# Altium integrated library Cypress Clocks & Buffers Clock Distribution.IntLib: 321 symbols (part 23 of 25)
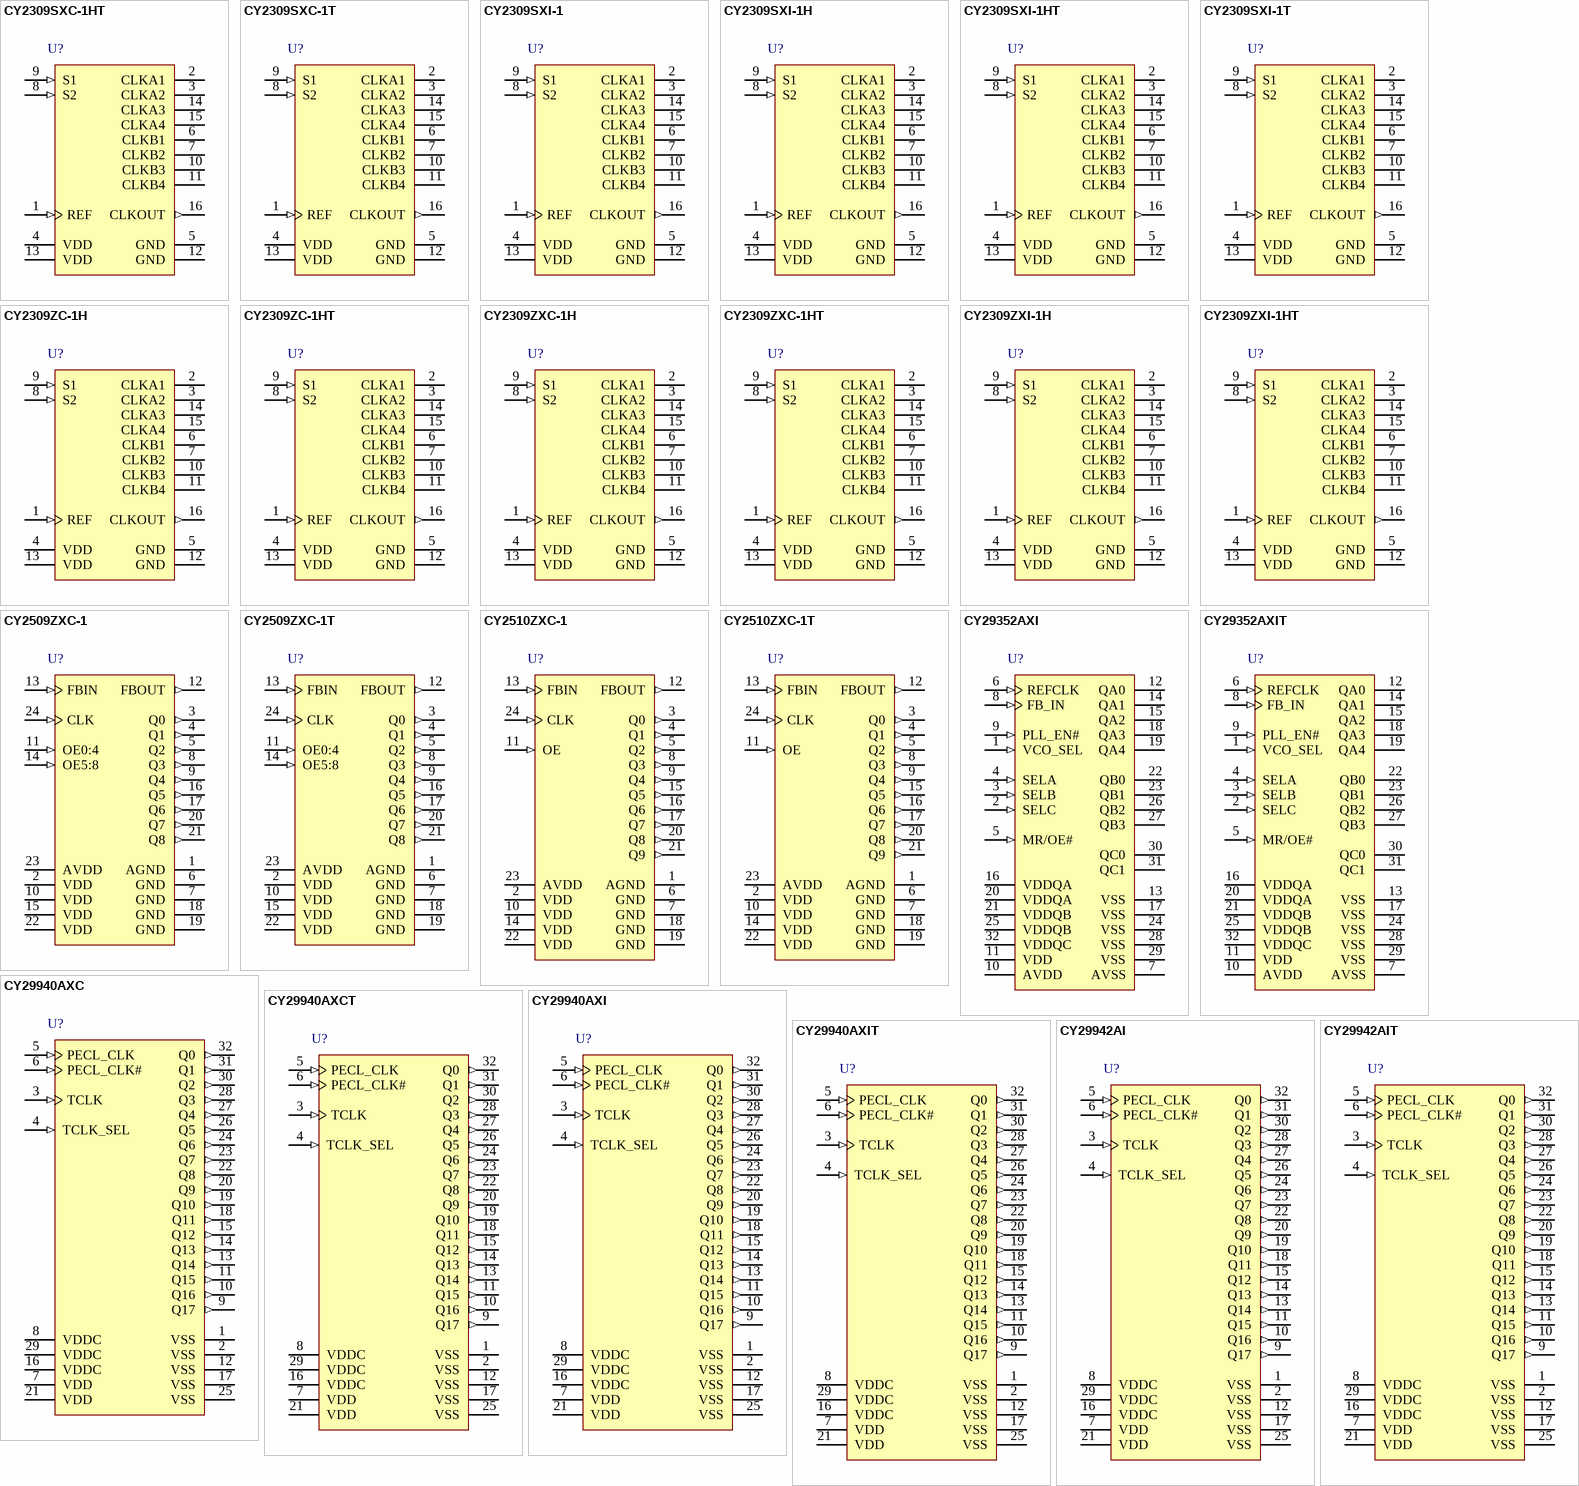
[diagram p38: symbols CY2309SXC-1HT to CY29942AIT]

## CY2309ZC-1H
designator U?
Low Cost Zero Delay Buffer, 3.3 V, 9 Outputs, 10 to 133.33 MHz, 0 to 70 degC, 16-Pin TSSOP (Z16), Tube; Manufacturer: Cypress; PartNumber: CY2309ZC-1H; Input Frequency Max. (MHz): 133; Input Frequency Min. (MHz): 10; Max. Operating Voltage (V): 3.6; Min. Operating Voltage (V): 3; No. of Outputs: 9; Output Frequency Max. (MHz): 133.33; DatasheetVersion: Rev. *R; PackageVersion: Rev. *D; PackageReference: Z16; PackageDescription: 16-Pin Thin Shrink Small Outline Package, Body 5 x 4.4 mm, Pitch 0.65 mm; Supplier 1: Digi-Key; Supplier Part Number 1: 428-1369-ND; Supplier 2: Mouser; Supplier Part Number 2: 727-CY2309ZC1H; Max. Operating Temp. (degreesC): 70; Min. Operating Temp. (degreesC): 0; Output Frequency Min. (MHz): 10; Packing: Tube; Mounting Technology: Surface Mount; Code_JEDEC: MO-153; ComponentLink1Description: Manufacturer URL; ComponentLink1URL: http://www.cypress.com/; ComponentLink2Description: Datasheet; ComponentLink2URL: http://www.cypress.com/?docID=46691; ComponentLink3Description: Package Specification; ComponentLink3URL: http://www.cypress.com/?docID=46959
footprint CYP-Z16_N (SOP, 16-Leads, Body 5.1x4.5mm, Pitch 0.65mm, IPC Medium Density)
footprint CYP-Z16_L (SOP, 16-Leads, Body 5.1x4.5mm, Pitch 0.65mm, IPC High Density)
footprint CYP-Z16_M (SOP, 16-Leads, Body 5.1x4.5mm, Pitch 0.65mm, IPC Low Density)
pins: 1 REF (in) "Input reference frequency", 2 CLKA1 (hiz) "Buffered clock output, Bank A", 3 CLKA2 (hiz) "Buffered clock output, Bank A", 4 VDD (power) "3.3 V supply", 5 GND (power) "Ground", 6 CLKB1 (hiz) "Buffered clock output, Bank B", 7 CLKB2 (hiz) "Buffered clock output, Bank B", 8 S2 (in) "Select input, bit 2", 9 S1 (in) "Select input, bit 1", 10 CLKB3 (hiz) "Buffered clock output, Bank B", 11 CLKB4 (hiz) "Buffered clock output, Bank B", 12 GND (power) "Ground", 13 VDD (power) "3.3 V supply", 14 CLKA3 (hiz) "Buffered clock output, Bank A", 15 CLKA4 (hiz) "Buffered clock output, Bank A", 16 CLKOUT (out) "Buffered output, internal feedback on this pin"

## CY2309ZC-1HT
designator U?
Low Cost Zero Delay Buffer, 3.3 V, 9 Outputs, 10 to 133.33 MHz, 0 to 70 degC, 16-Pin TSSOP (Z16), Tape and Reel; Manufacturer: Cypress; PartNumber: CY2309ZC-1HT; Input Frequency Max. (MHz): 133; Input Frequency Min. (MHz): 10; Max. Operating Voltage (V): 3.6; Min. Operating Voltage (V): 3; No. of Outputs: 9; Output Frequency Max. (MHz): 133.33; DatasheetVersion: Rev. *R; PackageVersion: Rev. *D; PackageReference: Z16; PackageDescription: 16-Pin Thin Shrink Small Outline Package, Body 5 x 4.4 mm, Pitch 0.65 mm; Supplier 1: Mouser; Supplier Part Number 1: N/A; Max. Operating Temp. (degreesC): 70; Min. Operating Temp. (degreesC): 0; Output Frequency Min. (MHz): 10; Packing: Tape and Reel; Mounting Technology: Surface Mount; Code_JEDEC: MO-153; ComponentLink1Description: Manufacturer URL; ComponentLink1URL: http://www.cypress.com/; ComponentLink2Description: Datasheet; ComponentLink2URL: http://www.cypress.com/?docID=46691; ComponentLink3Description: Package Specification; ComponentLink3URL: http://www.cypress.com/?docID=46959
footprint CYP-Z16_N (SOP, 16-Leads, Body 5.1x4.5mm, Pitch 0.65mm, IPC Medium Density)
footprint CYP-Z16_L (SOP, 16-Leads, Body 5.1x4.5mm, Pitch 0.65mm, IPC High Density)
footprint CYP-Z16_M (SOP, 16-Leads, Body 5.1x4.5mm, Pitch 0.65mm, IPC Low Density)
pins: 1 REF (in) "Input reference frequency", 2 CLKA1 (hiz) "Buffered clock output, Bank A", 3 CLKA2 (hiz) "Buffered clock output, Bank A", 4 VDD (power) "3.3 V supply", 5 GND (power) "Ground", 6 CLKB1 (hiz) "Buffered clock output, Bank B", 7 CLKB2 (hiz) "Buffered clock output, Bank B", 8 S2 (in) "Select input, bit 2", 9 S1 (in) "Select input, bit 1", 10 CLKB3 (hiz) "Buffered clock output, Bank B", 11 CLKB4 (hiz) "Buffered clock output, Bank B", 12 GND (power) "Ground", 13 VDD (power) "3.3 V supply", 14 CLKA3 (hiz) "Buffered clock output, Bank A", 15 CLKA4 (hiz) "Buffered clock output, Bank A", 16 CLKOUT (out) "Buffered output, internal feedback on this pin"

## CY2309ZXC-1H
designator U?
Low Cost Zero Delay Buffer, 3.3 V, 9 Outputs, 10 to 133.33 MHz, 0 to 70 degC, 16-Pin TSSOP (ZX16), Tube; Manufacturer: Cypress; PartNumber: CY2309ZXC-1H; Input Frequency Max. (MHz): 133; Input Frequency Min. (MHz): 10; Max. Operating Voltage (V): 3.6; Min. Operating Voltage (V): 3; No. of Outputs: 9; Output Frequency Max. (MHz): 133.33; DatasheetVersion: Rev. *R; PackageVersion: Rev. *D, 09/2011; PackageReference: ZX16; PackageDescription: 16-Pin Thin Shrink Small Outline Package, Body 5 x 4.4 mm, Pitch 0.65 mm; Supplier 1: Digi-Key; Supplier Part Number 1: 428-1793-ND; Supplier 2: Newark; Supplier Part Number 2: 19M2247; Supplier 3: Mouser; Supplier Part Number 3: 727-CY2309ZXC-1H; Max. Operating Temp. (degreesC): 70; Min. Operating Temp. (degreesC): 0; Output Frequency Min. (MHz): 10; Packing: Tube; RoHS: Pb-Free; Mounting Technology: Surface Mount; Code_JEDEC: MO-153; ComponentLink1Description: Manufacturer URL; ComponentLink1URL: http://www.cypress.com/; ComponentLink2Description: Datasheet; ComponentLink2URL: http://www.cypress.com/?docID=46691; ComponentLink3Description: Package Specification; ComponentLink3URL: http://www.cypress.com/?docID=39143
footprint CYP-ZX16_N (SOP, 16-Leads, Body 5.1x4.5mm, Pitch 0.65mm, IPC Medium Density)
footprint CYP-ZX16_L (SOP, 16-Leads, Body 5.1x4.5mm, Pitch 0.65mm, IPC High Density)
footprint CYP-ZX16_M (SOP, 16-Leads, Body 5.1x4.5mm, Pitch 0.65mm, IPC Low Density)
pins: 1 REF (in) "Input reference frequency", 2 CLKA1 (hiz) "Buffered clock output, Bank A", 3 CLKA2 (hiz) "Buffered clock output, Bank A", 4 VDD (power) "3.3 V supply", 5 GND (power) "Ground", 6 CLKB1 (hiz) "Buffered clock output, Bank B", 7 CLKB2 (hiz) "Buffered clock output, Bank B", 8 S2 (in) "Select input, bit 2", 9 S1 (in) "Select input, bit 1", 10 CLKB3 (hiz) "Buffered clock output, Bank B", 11 CLKB4 (hiz) "Buffered clock output, Bank B", 12 GND (power) "Ground", 13 VDD (power) "3.3 V supply", 14 CLKA3 (hiz) "Buffered clock output, Bank A", 15 CLKA4 (hiz) "Buffered clock output, Bank A", 16 CLKOUT (out) "Buffered output, internal feedback on this pin"

## CY2309ZXC-1HT
designator U?
Low Cost Zero Delay Buffer, 3.3 V, 9 Outputs, 10 to 133.33 MHz, 0 to 70 degC, 16-Pin TSSOP (ZX16), Tape and Reel; Manufacturer: Cypress; PartNumber: CY2309ZXC-1HT; Input Frequency Max. (MHz): 133; Input Frequency Min. (MHz): 10; Max. Operating Voltage (V): 3.6; Min. Operating Voltage (V): 3; No. of Outputs: 9; Output Frequency Max. (MHz): 133.33; DatasheetVersion: Rev. *R; PackageVersion: Rev. *D, 09/2011; PackageReference: ZX16; PackageDescription: 16-Pin Thin Shrink Small Outline Package, Body 5 x 4.4 mm, Pitch 0.65 mm; Supplier 1: Digi-Key; Supplier Part Number 1: CY2309ZXC-1HT-ND; Supplier 2: Farnell; Supplier Part Number 2: 1876330; Supplier 3: Newark; Supplier Part Number 3: 19M2248; Supplier 4: Newark; Supplier Part Number 4: 27T9401; Supplier 5: Mouser; Supplier Part Number 5: 727-CY2309ZXC-1HT; Max. Operating Temp. (degreesC): 70; Min. Operating Temp. (degreesC): 0; Output Frequency Min. (MHz): 10; Packing: Tape and Reel; RoHS: Pb-Free; Mounting Technology: Surface Mount; Code_JEDEC: MO-153; ComponentLink1Description: Manufacturer URL; ComponentLink1URL: http://www.cypress.com/; ComponentLink2Description: Datasheet; ComponentLink2URL: http://www.cypress.com/?docID=46691; ComponentLink3Description: Package Specification; ComponentLink3URL: http://www.cypress.com/?docID=39143
footprint CYP-ZX16_N (SOP, 16-Leads, Body 5.1x4.5mm, Pitch 0.65mm, IPC Medium Density)
footprint CYP-ZX16_L (SOP, 16-Leads, Body 5.1x4.5mm, Pitch 0.65mm, IPC High Density)
footprint CYP-ZX16_M (SOP, 16-Leads, Body 5.1x4.5mm, Pitch 0.65mm, IPC Low Density)
pins: 1 REF (in) "Input reference frequency", 2 CLKA1 (hiz) "Buffered clock output, Bank A", 3 CLKA2 (hiz) "Buffered clock output, Bank A", 4 VDD (power) "3.3 V supply", 5 GND (power) "Ground", 6 CLKB1 (hiz) "Buffered clock output, Bank B", 7 CLKB2 (hiz) "Buffered clock output, Bank B", 8 S2 (in) "Select input, bit 2", 9 S1 (in) "Select input, bit 1", 10 CLKB3 (hiz) "Buffered clock output, Bank B", 11 CLKB4 (hiz) "Buffered clock output, Bank B", 12 GND (power) "Ground", 13 VDD (power) "3.3 V supply", 14 CLKA3 (hiz) "Buffered clock output, Bank A", 15 CLKA4 (hiz) "Buffered clock output, Bank A", 16 CLKOUT (out) "Buffered output, internal feedback on this pin"

## CY2309ZXI-1H
designator U?
Low Cost Zero Delay Buffer, 3.3 V, 9 Outputs, 10 to 133.33 MHz, -40 to 85 degC, 16-Pin TSSOP (ZX16), Tube; Manufacturer: Cypress; PartNumber: CY2309ZXI-1H; Input Frequency Max. (MHz): 133; Input Frequency Min. (MHz): 10; Max. Operating Voltage (V): 3.6; Min. Operating Voltage (V): 3; No. of Outputs: 9; Output Frequency Max. (MHz): 133.33; DatasheetVersion: Rev. *R; PackageVersion: Rev. *D, 09/2011; PackageReference: ZX16; PackageDescription: 16-Pin Thin Shrink Small Outline Package, Body 5 x 4.4 mm, Pitch 0.65 mm; Supplier 1: Digi-Key; Supplier Part Number 1: 428-2898-5-ND; Supplier 2: Farnell; Supplier Part Number 2: 1873008; Supplier 3: Newark; Supplier Part Number 3: 19M2249; Supplier 4: Mouser; Supplier Part Number 4: 727-CY2309ZXI-1H; Max. Operating Temp. (degreesC): 85; Min. Operating Temp. (degreesC): -40; Output Frequency Min. (MHz): 10; Packing: Tube; RoHS: Pb-Free; Mounting Technology: Surface Mount; Code_JEDEC: MO-153; ComponentLink1Description: Manufacturer URL; ComponentLink1URL: http://www.cypress.com/; ComponentLink2Description: Datasheet; ComponentLink2URL: http://www.cypress.com/?docID=46691; ComponentLink3Description: Package Specification; ComponentLink3URL: http://www.cypress.com/?docID=39143
footprint CYP-ZX16_N (SOP, 16-Leads, Body 5.1x4.5mm, Pitch 0.65mm, IPC Medium Density)
footprint CYP-ZX16_L (SOP, 16-Leads, Body 5.1x4.5mm, Pitch 0.65mm, IPC High Density)
footprint CYP-ZX16_M (SOP, 16-Leads, Body 5.1x4.5mm, Pitch 0.65mm, IPC Low Density)
pins: 1 REF (in) "Input reference frequency", 2 CLKA1 (hiz) "Buffered clock output, Bank A", 3 CLKA2 (hiz) "Buffered clock output, Bank A", 4 VDD (power) "3.3 V supply", 5 GND (power) "Ground", 6 CLKB1 (hiz) "Buffered clock output, Bank B", 7 CLKB2 (hiz) "Buffered clock output, Bank B", 8 S2 (in) "Select input, bit 2", 9 S1 (in) "Select input, bit 1", 10 CLKB3 (hiz) "Buffered clock output, Bank B", 11 CLKB4 (hiz) "Buffered clock output, Bank B", 12 GND (power) "Ground", 13 VDD (power) "3.3 V supply", 14 CLKA3 (hiz) "Buffered clock output, Bank A", 15 CLKA4 (hiz) "Buffered clock output, Bank A", 16 CLKOUT (out) "Buffered output, internal feedback on this pin"

## CY2309ZXI-1HT
designator U?
Low Cost Zero Delay Buffer, 3.3 V, 9 Outputs, 10 to 133.33 MHz, -40 to 85 degC, 16-Pin TSSOP (ZX16), Tape and Reel; Manufacturer: Cypress; PartNumber: CY2309ZXI-1HT; Input Frequency Max. (MHz): 133; Input Frequency Min. (MHz): 10; Max. Operating Voltage (V): 3.6; Min. Operating Voltage (V): 3; No. of Outputs: 9; Output Frequency Max. (MHz): 133.33; DatasheetVersion: Rev. *R; PackageVersion: Rev. *D, 09/2011; PackageReference: ZX16; PackageDescription: 16-Pin Thin Shrink Small Outline Package, Body 5 x 4.4 mm, Pitch 0.65 mm; Supplier 1: Digi-Key; Supplier Part Number 1: CY2309ZXI-1HT-ND; Supplier 2: Newark; Supplier Part Number 2: 19M2250; Supplier 3: Mouser; Supplier Part Number 3: 727-CY2309ZXI-1HT; Max. Operating Temp. (degreesC): 85; Min. Operating Temp. (degreesC): -40; Output Frequency Min. (MHz): 10; Packing: Tape and Reel; RoHS: Pb-Free; Mounting Technology: Surface Mount; Code_JEDEC: MO-153; ComponentLink1Description: Manufacturer URL; ComponentLink1URL: http://www.cypress.com/; ComponentLink2Description: Datasheet; ComponentLink2URL: http://www.cypress.com/?docID=46691; ComponentLink3Description: Package Specification; ComponentLink3URL: http://www.cypress.com/?docID=39143
footprint CYP-ZX16_N (SOP, 16-Leads, Body 5.1x4.5mm, Pitch 0.65mm, IPC Medium Density)
footprint CYP-ZX16_L (SOP, 16-Leads, Body 5.1x4.5mm, Pitch 0.65mm, IPC High Density)
footprint CYP-ZX16_M (SOP, 16-Leads, Body 5.1x4.5mm, Pitch 0.65mm, IPC Low Density)
pins: 1 REF (in) "Input reference frequency", 2 CLKA1 (hiz) "Buffered clock output, Bank A", 3 CLKA2 (hiz) "Buffered clock output, Bank A", 4 VDD (power) "3.3 V supply", 5 GND (power) "Ground", 6 CLKB1 (hiz) "Buffered clock output, Bank B", 7 CLKB2 (hiz) "Buffered clock output, Bank B", 8 S2 (in) "Select input, bit 2", 9 S1 (in) "Select input, bit 1", 10 CLKB3 (hiz) "Buffered clock output, Bank B", 11 CLKB4 (hiz) "Buffered clock output, Bank B", 12 GND (power) "Ground", 13 VDD (power) "3.3 V supply", 14 CLKA3 (hiz) "Buffered clock output, Bank A", 15 CLKA4 (hiz) "Buffered clock output, Bank A", 16 CLKOUT (out) "Buffered output, internal feedback on this pin"

## CY2509ZXC-1
designator U?
Spread Aware(TM), Zero Delay Buffer, 3.3 V, 10 Outputs, 40 to 140 MHz, 0 to 70 degC, 24-Pin TSSOP (ZX24), Tube; Manufacturer: Cypress; PartNumber: CY2509ZXC-1; Max. Operating Voltage (V): 3.63; Min. Operating Voltage (V): 2.97; No. of Outputs: 10; Output Frequency Max. (MHz): 140; Output Frequency Min. (MHz): 40; DatasheetVersion: Rev. *E; PackageVersion: Rev. *D, 09/2011; PackageReference: ZX24; PackageDescription: 24-Pin Thin Shrink Small Outline Package, Body 7.8 x 4.4 mm, Pitch 0.65 mm; Supplier 1: Digi-Key; Supplier Part Number 1: CY2509ZXC-1-ND; Supplier 2: Mouser; Supplier Part Number 2: 727-CY2509ZXC-1; Max. Operating Temp. (degreesC): 70; Min. Operating Temp. (degreesC): 0; Packing: Tube; RoHS: Pb-Free; Mounting Technology: Surface Mount; Code_JEDEC: MO-153; ComponentLink1Description: Manufacturer URL; ComponentLink1URL: http://www.cypress.com/; ComponentLink2Description: Datasheet; ComponentLink2URL: http://www.cypress.com/?docID=30178; ComponentLink3Description: Package Specification; ComponentLink3URL: http://www.cypress.com/?docID=39119
footprint CYP-ZX24_N (SOP, 24-Leads, Body 7.9x4.5mm, Pitch 0.65mm, IPC Medium Density)
footprint CYP-ZX24_L (SOP, 24-Leads, Body 7.9x4.5mm, Pitch 0.65mm, IPC High Density)
footprint CYP-ZX24_M (SOP, 24-Leads, Body 7.9x4.5mm, Pitch 0.65mm, IPC Low Density)
pins: 1 AGND (power) "Analog ground connection: Connect to common system ground plane.", 2 VDD (power) "Power connections: Connect to 3.3 V. Use ferrite beads to help reduce noise for optimal jitter performance.", 3 Q0 (out) "Integrated series resistor outputs: The frequency and phase of the signals provided by these pins will be equal to the reference signal if properly laid out. Each output has a 25 ohm series damping resistor integrated.", 4 Q1 (out) "Integrated series resistor outputs: The frequency and phase of the signals provided by these pins will be equal to the reference signal if properly laid out. Each output has a 25 ohm series damping resistor integrated.", 5 Q2 (out) "Integrated series resistor outputs: The frequency and phase of the signals provided by these pins will be equal to the reference signal if properly laid out. Each output has a 25 ohm series damping resistor integrated.", 6 GND (power) "Ground connections: Connect to common system ground plane.", 7 GND (power) "Ground connections: Connect to common system ground plane.", 8 Q3 (out) "Integrated series resistor outputs: The frequency and phase of the signals provided by these pins will be equal to the reference signal if properly laid out. Each output has a 25 ohm series damping resistor integrated.", 9 Q4 (out) "Integrated series resistor outputs: The frequency and phase of the signals provided by these pins will be equal to the reference signal if properly laid out. Each output has a 25 ohm series damping resistor integrated.", 10 VDD (power) "Power connections: Connect to 3.3 V. Use ferrite beads to help reduce noise for optimal jitter performance.", 11 OE0:4 (in) "Output enable input: Tie to VDD (HIGH, 1) for normal operation. When brought to GND (LOW, 0) outputs Q0:4 are disabled to a LOW state.", 12 FBOUT (out) "Feedback output: This output has a 25 ohm series resistor integrated on chip. Typically it is connected directly to the FBIN input with a trace equal in length to the traces between outputs Q0:9 and the destination points of (See Datasheet)", 13 FBIN (in) "Feedback input: This input must be fed by one of the outputs (typically FBOUT) to ensure proper functionality. If the trace between FBIN and FBOUT is equal in length to the traces between the outputs and the signal (See Datasheet)", 14 OE5:8 (in) "Output enable input: Tie to VDD (HIGH, 1) for normal operation. When brought to GND (LOW, 0) outputs Q5:8 are disabled to a LOW state.", 15 VDD (power) "Power connections: Connect to 3.3 V. Use ferrite beads to help reduce noise for optimal jitter performance.", 16 Q5 (out) "Integrated series resistor outputs: The frequency and phase of the signals provided by these pins will be equal to the reference signal if properly laid out. Each output has a 25 ohm series damping resistor integrated.", 17 Q6 (out) "Integrated series resistor outputs: The frequency and phase of the signals provided by these pins will be equal to the reference signal if properly laid out. Each output has a 25 ohm series damping resistor integrated.", 18 GND (power) "Ground connections: Connect to common system ground plane.", 19 GND (power) "Ground connections: Connect to common system ground plane.", 20 Q7 (out) "Integrated series resistor outputs: The frequency and phase of the signals provided by these pins will be equal to the reference signal if properly laid out. Each output has a 25 ohm series damping resistor integrated.", 21 Q8 (out) "Integrated series resistor outputs: The frequency and phase of the signals provided by these pins will be equal to the reference signal if properly laid out. Each output has a 25 ohm series damping resistor integrated.", 22 VDD (power) "Power connections: Connect to 3.3 V. Use ferrite beads to help reduce noise for optimal jitter performance.", 23 AVDD (power) "Analog power connection: Connect to 3.3 V. Use ferrite beads to help reduce noise for optimal jitter performance.", 24 CLK (in) "Reference input: Output signals Q0:9 will be synchronized to this signal."

## CY2509ZXC-1T
designator U?
Spread Aware(TM), Zero Delay Buffer, 3.3 V, 10 Outputs, 40 to 140 MHz, 0 to 70 degC, 24-Pin TSSOP (ZX24), Tape and Reel; Manufacturer: Cypress; PartNumber: CY2509ZXC-1T; Max. Operating Voltage (V): 3.63; Min. Operating Voltage (V): 2.97; No. of Outputs: 10; Output Frequency Max. (MHz): 140; Output Frequency Min. (MHz): 40; DatasheetVersion: Rev. *E; PackageVersion: Rev. *D, 09/2011; PackageReference: ZX24; PackageDescription: 24-Pin Thin Shrink Small Outline Package, Body 7.8 x 4.4 mm, Pitch 0.65 mm; Supplier 1: Digi-Key; Supplier Part Number 1: CY2509ZXC-1T-ND; Supplier 2: Mouser; Supplier Part Number 2: 727-CY2509ZXC1T; Max. Operating Temp. (degreesC): 70; Min. Operating Temp. (degreesC): 0; Packing: Tape and Reel; RoHS: Pb-Free; Mounting Technology: Surface Mount; Code_JEDEC: MO-153; ComponentLink1Description: Manufacturer URL; ComponentLink1URL: http://www.cypress.com/; ComponentLink2Description: Datasheet; ComponentLink2URL: http://www.cypress.com/?docID=30178; ComponentLink3Description: Package Specification; ComponentLink3URL: http://www.cypress.com/?docID=39119
footprint CYP-ZX24_N (SOP, 24-Leads, Body 7.9x4.5mm, Pitch 0.65mm, IPC Medium Density)
footprint CYP-ZX24_L (SOP, 24-Leads, Body 7.9x4.5mm, Pitch 0.65mm, IPC High Density)
footprint CYP-ZX24_M (SOP, 24-Leads, Body 7.9x4.5mm, Pitch 0.65mm, IPC Low Density)
pins: 1 AGND (power) "Analog ground connection: Connect to common system ground plane.", 2 VDD (power) "Power connections: Connect to 3.3 V. Use ferrite beads to help reduce noise for optimal jitter performance.", 3 Q0 (out) "Integrated series resistor outputs: The frequency and phase of the signals provided by these pins will be equal to the reference signal if properly laid out. Each output has a 25 ohm series damping resistor integrated.", 4 Q1 (out) "Integrated series resistor outputs: The frequency and phase of the signals provided by these pins will be equal to the reference signal if properly laid out. Each output has a 25 ohm series damping resistor integrated.", 5 Q2 (out) "Integrated series resistor outputs: The frequency and phase of the signals provided by these pins will be equal to the reference signal if properly laid out. Each output has a 25 ohm series damping resistor integrated.", 6 GND (power) "Ground connections: Connect to common system ground plane.", 7 GND (power) "Ground connections: Connect to common system ground plane.", 8 Q3 (out) "Integrated series resistor outputs: The frequency and phase of the signals provided by these pins will be equal to the reference signal if properly laid out. Each output has a 25 ohm series damping resistor integrated.", 9 Q4 (out) "Integrated series resistor outputs: The frequency and phase of the signals provided by these pins will be equal to the reference signal if properly laid out. Each output has a 25 ohm series damping resistor integrated.", 10 VDD (power) "Power connections: Connect to 3.3 V. Use ferrite beads to help reduce noise for optimal jitter performance.", 11 OE0:4 (in) "Output enable input: Tie to VDD (HIGH, 1) for normal operation. When brought to GND (LOW, 0) outputs Q0:4 are disabled to a LOW state.", 12 FBOUT (out) "Feedback output: This output has a 25 ohm series resistor integrated on chip. Typically it is connected directly to the FBIN input with a trace equal in length to the traces between outputs Q0:9 and the destination points of (See Datasheet)", 13 FBIN (in) "Feedback input: This input must be fed by one of the outputs (typically FBOUT) to ensure proper functionality. If the trace between FBIN and FBOUT is equal in length to the traces between the outputs and the signal (See Datasheet)", 14 OE5:8 (in) "Output enable input: Tie to VDD (HIGH, 1) for normal operation. When brought to GND (LOW, 0) outputs Q5:8 are disabled to a LOW state.", 15 VDD (power) "Power connections: Connect to 3.3 V. Use ferrite beads to help reduce noise for optimal jitter performance.", 16 Q5 (out) "Integrated series resistor outputs: The frequency and phase of the signals provided by these pins will be equal to the reference signal if properly laid out. Each output has a 25 ohm series damping resistor integrated.", 17 Q6 (out) "Integrated series resistor outputs: The frequency and phase of the signals provided by these pins will be equal to the reference signal if properly laid out. Each output has a 25 ohm series damping resistor integrated.", 18 GND (power) "Ground connections: Connect to common system ground plane.", 19 GND (power) "Ground connections: Connect to common system ground plane.", 20 Q7 (out) "Integrated series resistor outputs: The frequency and phase of the signals provided by these pins will be equal to the reference signal if properly laid out. Each output has a 25 ohm series damping resistor integrated.", 21 Q8 (out) "Integrated series resistor outputs: The frequency and phase of the signals provided by these pins will be equal to the reference signal if properly laid out. Each output has a 25 ohm series damping resistor integrated.", 22 VDD (power) "Power connections: Connect to 3.3 V. Use ferrite beads to help reduce noise for optimal jitter performance.", 23 AVDD (power) "Analog power connection: Connect to 3.3 V. Use ferrite beads to help reduce noise for optimal jitter performance.", 24 CLK (in) "Reference input: Output signals Q0:9 will be synchronized to this signal."

## CY2510ZXC-1
designator U?
Spread Aware(TM), Zero Delay Buffer, 3.3 V, 11 Outputs, 40 to 140 MHz, 0 to 70 degC, 24-Pin TSSOP (ZX24), Tube; Manufacturer: Cypress; PartNumber: CY2510ZXC-1; Max. Operating Voltage (V): 3.63; Min. Operating Voltage (V): 2.97; No. of Outputs: 11; Output Frequency Max. (MHz): 140; Output Frequency Min. (MHz): 40; DatasheetVersion: Rev. *E; PackageVersion: Rev. *D, 09/2011; PackageReference: ZX24; PackageDescription: 24-Pin Thin Shrink Small Outline Package, Body 7.8 x 4.4 mm, Pitch 0.65 mm; Supplier 1: Digi-Key; Supplier Part Number 1: CY2510ZXC-1-ND; Supplier 2: Mouser; Supplier Part Number 2: 727-CY2510ZXC-1; Max. Operating Temp. (degreesC): 70; Min. Operating Temp. (degreesC): 0; Packing: Tube; RoHS: Pb-Free; Mounting Technology: Surface Mount; Code_JEDEC: MO-153; ComponentLink1Description: Manufacturer URL; ComponentLink1URL: http://www.cypress.com/; ComponentLink2Description: Datasheet; ComponentLink2URL: http://www.cypress.com/?docID=30178; ComponentLink3Description: Package Specification; ComponentLink3URL: http://www.cypress.com/?docID=39119
footprint CYP-ZX24_N (SOP, 24-Leads, Body 7.9x4.5mm, Pitch 0.65mm, IPC Medium Density)
footprint CYP-ZX24_L (SOP, 24-Leads, Body 7.9x4.5mm, Pitch 0.65mm, IPC High Density)
footprint CYP-ZX24_M (SOP, 24-Leads, Body 7.9x4.5mm, Pitch 0.65mm, IPC Low Density)
pins: 1 AGND (power) "Analog ground connection: Connect to common system ground plane.", 2 VDD (power) "Power connections: Connect to 3.3 V. Use ferrite beads to help reduce noise for optimal jitter performance.", 3 Q0 (out) "Integrated series resistor outputs: The frequency and phase of the signals provided by these pins will be equal to the reference signal if properly laid out. Each output has a 25 ohm series damping resistor integrated.", 4 Q1 (out) "Integrated series resistor outputs: The frequency and phase of the signals provided by these pins will be equal to the reference signal if properly laid out. Each output has a 25 ohm series damping resistor integrated.", 5 Q2 (out) "Integrated series resistor outputs: The frequency and phase of the signals provided by these pins will be equal to the reference signal if properly laid out. Each output has a 25 ohm series damping resistor integrated.", 6 GND (power) "Ground connections: Connect to common system ground plane.", 7 GND (power) "Ground connections: Connect to common system ground plane.", 8 Q3 (out) "Integrated series resistor outputs: The frequency and phase of the signals provided by these pins will be equal to the reference signal if properly laid out. Each output has a 25 ohm series damping resistor integrated.", 9 Q4 (out) "Integrated series resistor outputs: The frequency and phase of the signals provided by these pins will be equal to the reference signal if properly laid out. Each output has a 25 ohm series damping resistor integrated.", 10 VDD (power) "Power connections: Connect to 3.3 V. Use ferrite beads to help reduce noise for optimal jitter performance.", 11 OE (in) "Output enable input: Tie to VDD (HIGH, 1) for normal operation. When brought to GND (LOW, 0) all outputs are disabled to a LOW state.", 12 FBOUT (out) "Feedback output: This output has a 25 ohm series resistor integrated on chip. Typically it is connected directly to the FBIN input with a trace equal in length to the traces between outputs Q0:9 and the destination points of (See Datasheet)", 13 FBIN (in) "Feedback input: This input must be fed by one of the outputs (typically FBOUT) to ensure proper functionality. If the trace between FBIN and FBOUT is equal in length to the traces between the outputs and the signal (See Datasheet)", 14 VDD (power) "Power connections: Connect to 3.3 V. Use ferrite beads to help reduce noise for optimal jitter performance.", 15 Q5 (out) "Integrated series resistor outputs: The frequency and phase of the signals provided by these pins will be equal to the reference signal if properly laid out. Each output has a 25 ohm series damping resistor integrated.", 16 Q6 (out) "Integrated series resistor outputs: The frequency and phase of the signals provided by these pins will be equal to the reference signal if properly laid out. Each output has a 25 ohm series damping resistor integrated.", 17 Q7 (out) "Integrated series resistor outputs: The frequency and phase of the signals provided by these pins will be equal to the reference signal if properly laid out. Each output has a 25 ohm series damping resistor integrated.", 18 GND (power) "Ground connections: Connect to common system ground plane.", 19 GND (power) "Ground connections: Connect to common system ground plane.", 20 Q8 (out) "Integrated series resistor outputs: The frequency and phase of the signals provided by these pins will be equal to the reference signal if properly laid out. Each output has a 25 ohm series damping resistor integrated.", 21 Q9 (out) "Integrated series resistor outputs: The frequency and phase of the signals provided by these pins will be equal to the reference signal if properly laid out. Each output has a 25 ohm series damping resistor integrated.", 22 VDD (power) "Power connections: Connect to 3.3 V. Use ferrite beads to help reduce noise for optimal jitter performance.", 23 AVDD (power) "Analog power connection: Connect to 3.3 V. Use ferrite beads to help reduce noise for optimal jitter performance.", 24 CLK (in) "Reference input: Output signals Q0:9 will be synchronized to this signal."

## CY2510ZXC-1T
designator U?
Spread Aware(TM), Zero Delay Buffer, 3.3 V, 11 Outputs, 40 to 140 MHz, 0 to 70 degC, 24-Pin TSSOP (ZX24), Tape and Reel; Manufacturer: Cypress; PartNumber: CY2510ZXC-1T; Max. Operating Voltage (V): 3.63; Min. Operating Voltage (V): 2.97; No. of Outputs: 11; Output Frequency Max. (MHz): 140; Output Frequency Min. (MHz): 40; DatasheetVersion: Rev. *E; PackageVersion: Rev. *D, 09/2011; PackageReference: ZX24; PackageDescription: 24-Pin Thin Shrink Small Outline Package, Body 7.8 x 4.4 mm, Pitch 0.65 mm; Supplier 1: Digi-Key; Supplier Part Number 1: CY2510ZXC-1T-ND; Supplier 2: Mouser; Supplier Part Number 2: 727-CY2510ZXC1T; Max. Operating Temp. (degreesC): 70; Min. Operating Temp. (degreesC): 0; Packing: Tape and Reel; RoHS: Pb-Free; Mounting Technology: Surface Mount; Code_JEDEC: MO-153; ComponentLink1Description: Manufacturer URL; ComponentLink1URL: http://www.cypress.com/; ComponentLink2Description: Datasheet; ComponentLink2URL: http://www.cypress.com/?docID=30178; ComponentLink3Description: Package Specification; ComponentLink3URL: http://www.cypress.com/?docID=39119
footprint CYP-ZX24_N (SOP, 24-Leads, Body 7.9x4.5mm, Pitch 0.65mm, IPC Medium Density)
footprint CYP-ZX24_L (SOP, 24-Leads, Body 7.9x4.5mm, Pitch 0.65mm, IPC High Density)
footprint CYP-ZX24_M (SOP, 24-Leads, Body 7.9x4.5mm, Pitch 0.65mm, IPC Low Density)
pins: 1 AGND (power) "Analog ground connection: Connect to common system ground plane.", 2 VDD (power) "Power connections: Connect to 3.3 V. Use ferrite beads to help reduce noise for optimal jitter performance.", 3 Q0 (out) "Integrated series resistor outputs: The frequency and phase of the signals provided by these pins will be equal to the reference signal if properly laid out. Each output has a 25 ohm series damping resistor integrated.", 4 Q1 (out) "Integrated series resistor outputs: The frequency and phase of the signals provided by these pins will be equal to the reference signal if properly laid out. Each output has a 25 ohm series damping resistor integrated.", 5 Q2 (out) "Integrated series resistor outputs: The frequency and phase of the signals provided by these pins will be equal to the reference signal if properly laid out. Each output has a 25 ohm series damping resistor integrated.", 6 GND (power) "Ground connections: Connect to common system ground plane.", 7 GND (power) "Ground connections: Connect to common system ground plane.", 8 Q3 (out) "Integrated series resistor outputs: The frequency and phase of the signals provided by these pins will be equal to the reference signal if properly laid out. Each output has a 25 ohm series damping resistor integrated.", 9 Q4 (out) "Integrated series resistor outputs: The frequency and phase of the signals provided by these pins will be equal to the reference signal if properly laid out. Each output has a 25 ohm series damping resistor integrated.", 10 VDD (power) "Power connections: Connect to 3.3 V. Use ferrite beads to help reduce noise for optimal jitter performance.", 11 OE (in) "Output enable input: Tie to VDD (HIGH, 1) for normal operation. When brought to GND (LOW, 0) all outputs are disabled to a LOW state.", 12 FBOUT (out) "Feedback output: This output has a 25 ohm series resistor integrated on chip. Typically it is connected directly to the FBIN input with a trace equal in length to the traces between outputs Q0:9 and the destination points of (See Datasheet)", 13 FBIN (in) "Feedback input: This input must be fed by one of the outputs (typically FBOUT) to ensure proper functionality. If the trace between FBIN and FBOUT is equal in length to the traces between the outputs and the signal (See Datasheet)", 14 VDD (power) "Power connections: Connect to 3.3 V. Use ferrite beads to help reduce noise for optimal jitter performance.", 15 Q5 (out) "Integrated series resistor outputs: The frequency and phase of the signals provided by these pins will be equal to the reference signal if properly laid out. Each output has a 25 ohm series damping resistor integrated.", 16 Q6 (out) "Integrated series resistor outputs: The frequency and phase of the signals provided by these pins will be equal to the reference signal if properly laid out. Each output has a 25 ohm series damping resistor integrated.", 17 Q7 (out) "Integrated series resistor outputs: The frequency and phase of the signals provided by these pins will be equal to the reference signal if properly laid out. Each output has a 25 ohm series damping resistor integrated.", 18 GND (power) "Ground connections: Connect to common system ground plane.", 19 GND (power) "Ground connections: Connect to common system ground plane.", 20 Q8 (out) "Integrated series resistor outputs: The frequency and phase of the signals provided by these pins will be equal to the reference signal if properly laid out. Each output has a 25 ohm series damping resistor integrated.", 21 Q9 (out) "Integrated series resistor outputs: The frequency and phase of the signals provided by these pins will be equal to the reference signal if properly laid out. Each output has a 25 ohm series damping resistor integrated.", 22 VDD (power) "Power connections: Connect to 3.3 V. Use ferrite beads to help reduce noise for optimal jitter performance.", 23 AVDD (power) "Analog power connection: Connect to 3.3 V. Use ferrite beads to help reduce noise for optimal jitter performance.", 24 CLK (in) "Reference input: Output signals Q0:9 will be synchronized to this signal."

## CY29352AXI
designator U?
Zero Delay Buffer, 2.5 / 3.3 V, 11 Outputs, 16.67 to 200 MHz, -40 to 85 degC, 32-Pin PLCC (AX32), Tube; Manufacturer: Cypress; PartNumber: CY29352AXI; Input Frequency Max. (MHz): 200; Input Frequency Min. (MHz): 16.67; Max. Operating Voltage (V): 3.465; Min. Operating Voltage (V): 2.375; No. of Outputs: 11; DatasheetVersion: Rev. *D; PackageVersion: Rev. *E, 08/2012; PackageReference: AX32; PackageDescription: 32-Pin Thin Plastic Quad Flatpack, Body 7 x 7 mm, Pitch 0.8 mm; Supplier 1: Digi-Key; Supplier Part Number 1: 428-2230-ND; Supplier 2: Mouser; Supplier Part Number 2: 727-CY29352AXI; Max. Operating Temp. (degreesC): 85; Min. Operating Temp. (degreesC): -40; Output Frequency Max. (MHz): 200; Output Frequency Min. (MHz): 16.67; Packing: Tube; RoHS: Pb-Free; Mounting Technology: Surface Mount; ComponentLink1Description: Manufacturer URL; ComponentLink1URL: http://www.cypress.com/; ComponentLink2Description: Datasheet; ComponentLink2URL: http://www.cypress.com/?docID=48488; ComponentLink3Description: Package Specification; ComponentLink3URL: http://www.cypress.com/?docID=39237
footprint CYP-AX32_N (QFP, 32-Leads, Body 7x7mm, Pitch 0.8mm, IPC Medium Density)
footprint CYP-AX32_L (QFP, 32-Leads, Body 7x7mm, Pitch 0.8mm, IPC High Density)
footprint CYP-AX32_M (QFP, 32-Leads, Body 7x7mm, Pitch 0.8mm, IPC Low Density)
pins: 1 VCO_SEL (in) "VCO divider select input, see Table 3 on page 3.", 2 SELC (in) "Frequency select input, bank (A:C), see Table 3 on page 3.", 3 SELB (in) "Frequency select input, bank (A:C), see Table 3 on page 3.", 4 SELA (in) "Frequency select input, bank (A:C), see Table 3 on page 3.", 5 MR/OE# (in) "Master reset or output enable and disable input, see Table 3 on page 3.", 6 REFCLK (in) "Reference clock input", 7 AVSS (power) "Analog ground", 8 FB_IN (in) "Feedback clock input. Connect to an output for normal operation. This input must be at the same voltage rail as input reference clock, see Table 2 on page 3.", 9 PLL_EN# (in) "PLL enable and disable input, see Table 3 on page 3.", 10 AVDD (power) "2.5 V or 3.3 V power supply for PLL", 11 VDD (power) "2.5 V or 3.3 V power supply for core and inputs", 12 QA0 (hiz) "Clock output bank A", 13 VSS (power) "Common ground", 14 QA1 (hiz) "Clock output bank A", 15 QA2 (hiz) "Clock output bank A", 16 VDDQA (power) "2.5 V or 3.3 V power supply for bank A output clocks", 17 VSS (power) "Common ground", 18 QA3 (hiz) "Clock output bank A", 19 QA4 (hiz) "Clock output bank A", 20 VDDQA (power) "2.5 V or 3.3 V power supply for bank A output clocks", 21 VDDQB (power) "2.5 V or 3.3 V power supply for bank B output clocks", 22 QB0 (hiz) "Clock output bank B", 23 QB1 (hiz) "Clock output bank B", 24 VSS (power) "Common ground", 25 VDDQB (power) "2.5 V or 3.3 V power supply for bank B output clocks", 26 QB2 (hiz) "Clock output bank B", 27 QB3 (hiz) "Clock output bank B", 28 VSS (power) "Common ground", 29 VSS (power) "Common ground", 30 QC0 (hiz) "Clock output bank C", 31 QC1 (hiz) "Clock output bank C", 32 VDDQC (power) "2.5 V or 3.3 V power supply for bank C output clocks"

## CY29352AXIT
designator U?
Zero Delay Buffer, 2.5 / 3.3 V, 11 Outputs, 16.67 to 200 MHz, -40 to 85 degC, 32-Pin PLCC (AX32), Tape and Reel; Manufacturer: Cypress; PartNumber: CY29352AXIT; Input Frequency Max. (MHz): 200; Input Frequency Min. (MHz): 16.67; Max. Operating Voltage (V): 3.465; Min. Operating Voltage (V): 2.375; No. of Outputs: 11; DatasheetVersion: Rev. *D; PackageVersion: Rev. *E, 08/2012; PackageReference: AX32; PackageDescription: 32-Pin Thin Plastic Quad Flatpack, Body 7 x 7 mm, Pitch 0.8 mm; Supplier 1: Digi-Key; Supplier Part Number 1: CY29352AXIT-ND; Supplier 2: Mouser; Supplier Part Number 2: 727-CY29352AXIT; Max. Operating Temp. (degreesC): 85; Min. Operating Temp. (degreesC): -40; Output Frequency Max. (MHz): 200; Output Frequency Min. (MHz): 16.67; Packing: Tape and Reel; RoHS: Pb-Free; Mounting Technology: Surface Mount; ComponentLink1Description: Manufacturer URL; ComponentLink1URL: http://www.cypress.com/; ComponentLink2Description: Datasheet; ComponentLink2URL: http://www.cypress.com/?docID=48488; ComponentLink3Description: Package Specification; ComponentLink3URL: http://www.cypress.com/?docID=39237
footprint CYP-AX32_N (QFP, 32-Leads, Body 7x7mm, Pitch 0.8mm, IPC Medium Density)
footprint CYP-AX32_L (QFP, 32-Leads, Body 7x7mm, Pitch 0.8mm, IPC High Density)
footprint CYP-AX32_M (QFP, 32-Leads, Body 7x7mm, Pitch 0.8mm, IPC Low Density)
pins: 1 VCO_SEL (in) "VCO divider select input, see Table 3 on page 3.", 2 SELC (in) "Frequency select input, bank (A:C), see Table 3 on page 3.", 3 SELB (in) "Frequency select input, bank (A:C), see Table 3 on page 3.", 4 SELA (in) "Frequency select input, bank (A:C), see Table 3 on page 3.", 5 MR/OE# (in) "Master reset or output enable and disable input, see Table 3 on page 3.", 6 REFCLK (in) "Reference clock input", 7 AVSS (power) "Analog ground", 8 FB_IN (in) "Feedback clock input. Connect to an output for normal operation. This input must be at the same voltage rail as input reference clock, see Table 2 on page 3.", 9 PLL_EN# (in) "PLL enable and disable input, see Table 3 on page 3.", 10 AVDD (power) "2.5 V or 3.3 V power supply for PLL", 11 VDD (power) "2.5 V or 3.3 V power supply for core and inputs", 12 QA0 (hiz) "Clock output bank A", 13 VSS (power) "Common ground", 14 QA1 (hiz) "Clock output bank A", 15 QA2 (hiz) "Clock output bank A", 16 VDDQA (power) "2.5 V or 3.3 V power supply for bank A output clocks", 17 VSS (power) "Common ground", 18 QA3 (hiz) "Clock output bank A", 19 QA4 (hiz) "Clock output bank A", 20 VDDQA (power) "2.5 V or 3.3 V power supply for bank A output clocks", 21 VDDQB (power) "2.5 V or 3.3 V power supply for bank B output clocks", 22 QB0 (hiz) "Clock output bank B", 23 QB1 (hiz) "Clock output bank B", 24 VSS (power) "Common ground", 25 VDDQB (power) "2.5 V or 3.3 V power supply for bank B output clocks", 26 QB2 (hiz) "Clock output bank B", 27 QB3 (hiz) "Clock output bank B", 28 VSS (power) "Common ground", 29 VSS (power) "Common ground", 30 QC0 (hiz) "Clock output bank C", 31 QC1 (hiz) "Clock output bank C", 32 VDDQC (power) "2.5 V or 3.3 V power supply for bank C output clocks"

## CY29940AXC
designator U?
1:18 Clock Distribution Buffer, 2.5 / 3.3 V, 18 Outputs, 200 MHz Maximum, 0 to 70 degC, 32-Pin PLCC (AX32), Tube; Manufacturer: Cypress; PartNumber: CY29940AXC; Input Frequency Max. (MHz): 200; Max. Operating Voltage (V): 3.465; Min. Operating Voltage (V): 2.375; No. of Outputs: 18; DatasheetVersion: Rev. *F; PackageVersion: Rev. *E, 08/2012; PackageReference: AX32; PackageDescription: 32-Pin Thin Plastic Quad Flatpack, Body 7 x 7 mm, Pitch 0.8 mm; Supplier 1: Digi-Key; Supplier Part Number 1: CY29940AXC-ND; Supplier 2: Mouser; Supplier Part Number 2: 727-CY29940AXC; Max. Operating Temp. (degreesC): 70; Min. Operating Temp. (degreesC): 0; Output Frequency Max. (MHz): 200; Packing: Tube; RoHS: Pb-Free; Mounting Technology: Surface Mount; ComponentLink1Description: Manufacturer URL; ComponentLink1URL: http://www.cypress.com/; ComponentLink2Description: Datasheet; ComponentLink2URL: http://www.cypress.com/?docID=34951; ComponentLink3Description: Package Specification; ComponentLink3URL: http://www.cypress.com/?docID=39237
footprint CYP-AX32_N (QFP, 32-Leads, Body 7x7mm, Pitch 0.8mm, IPC Medium Density)
footprint CYP-AX32_L (QFP, 32-Leads, Body 7x7mm, Pitch 0.8mm, IPC High Density)
footprint CYP-AX32_M (QFP, 32-Leads, Body 7x7mm, Pitch 0.8mm, IPC Low Density)
pins: 1 VSS (power) "Common ground", 2 VSS (power) "Common ground", 3 TCLK (in) "External reference/test clock input", 4 TCLK_SEL (in) "Clock Select Input. When LOW, PECL clock is selected and when HIGH TCLK is selected.", 5 PECL_CLK (in) "PECL input clock", 6 PECL_CLK# (in) "PECL input clock", 7 VDD (power) "3.3 V or 2.5 V power supply", 8 VDDC (power) "3.3 V or 2.5 V power supply for output clock buffers", 9 Q17 (out) "Clock outputs", 10 Q16 (out) "Clock outputs", 11 Q15 (out) "Clock outputs", 12 VSS (power) "Common ground", 13 Q14 (out) "Clock outputs", 14 Q13 (out) "Clock outputs", 15 Q12 (out) "Clock outputs", 16 VDDC (power) "3.3 V or 2.5 V power supply for output clock buffers", 17 VSS (power) "Common ground", 18 Q11 (out) "Clock outputs", 19 Q10 (out) "Clock outputs", 20 Q9 (out) "Clock outputs", 21 VDD (power) "3.3 V or 2.5 V power supply", 22 Q8 (out) "Clock outputs", 23 Q7 (out) "Clock outputs", 24 Q6 (out) "Clock outputs", 25 VSS (power) "Common ground", 26 Q5 (out) "Clock outputs", 27 Q4 (out) "Clock outputs", 28 Q3 (out) "Clock outputs", 29 VDDC (power) "3.3 V or 2.5 V power supply for output clock buffers", 30 Q2 (out) "Clock outputs", 31 Q1 (out) "Clock outputs", 32 Q0 (out) "Clock outputs"

## CY29940AXCT
designator U?
1:18 Clock Distribution Buffer, 2.5 / 3.3 V, 18 Outputs, 200 MHz Maximum, 0 to 70 degC, 32-Pin PLCC (AX32), Tape and Reel; Manufacturer: Cypress; PartNumber: CY29940AXCT; Input Frequency Max. (MHz): 200; Max. Operating Voltage (V): 3.465; Min. Operating Voltage (V): 2.375; No. of Outputs: 18; DatasheetVersion: Rev. *F; PackageVersion: Rev. *E, 08/2012; PackageReference: AX32; PackageDescription: 32-Pin Thin Plastic Quad Flatpack, Body 7 x 7 mm, Pitch 0.8 mm; Supplier 1: Digi-Key; Supplier Part Number 1: CY29940AXCT-ND; Supplier 2: Mouser; Supplier Part Number 2: 727-CY29940AXCT; Max. Operating Temp. (degreesC): 70; Min. Operating Temp. (degreesC): 0; Output Frequency Max. (MHz): 200; Packing: Tape and Reel; RoHS: Pb-Free; Mounting Technology: Surface Mount; ComponentLink1Description: Manufacturer URL; ComponentLink1URL: http://www.cypress.com/; ComponentLink2Description: Datasheet; ComponentLink2URL: http://www.cypress.com/?docID=34951; ComponentLink3Description: Package Specification; ComponentLink3URL: http://www.cypress.com/?docID=39237
footprint CYP-AX32_N (QFP, 32-Leads, Body 7x7mm, Pitch 0.8mm, IPC Medium Density)
footprint CYP-AX32_L (QFP, 32-Leads, Body 7x7mm, Pitch 0.8mm, IPC High Density)
footprint CYP-AX32_M (QFP, 32-Leads, Body 7x7mm, Pitch 0.8mm, IPC Low Density)
pins: 1 VSS (power) "Common ground", 2 VSS (power) "Common ground", 3 TCLK (in) "External reference/test clock input", 4 TCLK_SEL (in) "Clock Select Input. When LOW, PECL clock is selected and when HIGH TCLK is selected.", 5 PECL_CLK (in) "PECL input clock", 6 PECL_CLK# (in) "PECL input clock", 7 VDD (power) "3.3 V or 2.5 V power supply", 8 VDDC (power) "3.3 V or 2.5 V power supply for output clock buffers", 9 Q17 (out) "Clock outputs", 10 Q16 (out) "Clock outputs", 11 Q15 (out) "Clock outputs", 12 VSS (power) "Common ground", 13 Q14 (out) "Clock outputs", 14 Q13 (out) "Clock outputs", 15 Q12 (out) "Clock outputs", 16 VDDC (power) "3.3 V or 2.5 V power supply for output clock buffers", 17 VSS (power) "Common ground", 18 Q11 (out) "Clock outputs", 19 Q10 (out) "Clock outputs", 20 Q9 (out) "Clock outputs", 21 VDD (power) "3.3 V or 2.5 V power supply", 22 Q8 (out) "Clock outputs", 23 Q7 (out) "Clock outputs", 24 Q6 (out) "Clock outputs", 25 VSS (power) "Common ground", 26 Q5 (out) "Clock outputs", 27 Q4 (out) "Clock outputs", 28 Q3 (out) "Clock outputs", 29 VDDC (power) "3.3 V or 2.5 V power supply for output clock buffers", 30 Q2 (out) "Clock outputs", 31 Q1 (out) "Clock outputs", 32 Q0 (out) "Clock outputs"

## CY29940AXI
designator U?
1:18 Clock Distribution Buffer, 2.5 / 3.3 V, 18 Outputs, 200 MHz Maximum, -40 to 85 degC, 32-Pin PLCC (AX32), Tube; Manufacturer: Cypress; PartNumber: CY29940AXI; Input Frequency Max. (MHz): 200; Max. Operating Voltage (V): 3.465; Min. Operating Voltage (V): 2.375; No. of Outputs: 18; DatasheetVersion: Rev. *F; PackageVersion: Rev. *E, 08/2012; PackageReference: AX32; PackageDescription: 32-Pin Thin Plastic Quad Flatpack, Body 7 x 7 mm, Pitch 0.8 mm; Supplier 1: Digi-Key; Supplier Part Number 1: 428-2231-ND; Supplier 2: Mouser; Supplier Part Number 2: 727-CY29940AXI; Max. Operating Temp. (degreesC): 85; Min. Operating Temp. (degreesC): -40; Output Frequency Max. (MHz): 200; Packing: Tube; RoHS: Pb-Free; Mounting Technology: Surface Mount; ComponentLink1Description: Manufacturer URL; ComponentLink1URL: http://www.cypress.com/; ComponentLink2Description: Datasheet; ComponentLink2URL: http://www.cypress.com/?docID=34951; ComponentLink3Description: Package Specification; ComponentLink3URL: http://www.cypress.com/?docID=39237
footprint CYP-AX32_N (QFP, 32-Leads, Body 7x7mm, Pitch 0.8mm, IPC Medium Density)
footprint CYP-AX32_L (QFP, 32-Leads, Body 7x7mm, Pitch 0.8mm, IPC High Density)
footprint CYP-AX32_M (QFP, 32-Leads, Body 7x7mm, Pitch 0.8mm, IPC Low Density)
pins: 1 VSS (power) "Common ground", 2 VSS (power) "Common ground", 3 TCLK (in) "External reference/test clock input", 4 TCLK_SEL (in) "Clock Select Input. When LOW, PECL clock is selected and when HIGH TCLK is selected.", 5 PECL_CLK (in) "PECL input clock", 6 PECL_CLK# (in) "PECL input clock", 7 VDD (power) "3.3 V or 2.5 V power supply", 8 VDDC (power) "3.3 V or 2.5 V power supply for output clock buffers", 9 Q17 (out) "Clock outputs", 10 Q16 (out) "Clock outputs", 11 Q15 (out) "Clock outputs", 12 VSS (power) "Common ground", 13 Q14 (out) "Clock outputs", 14 Q13 (out) "Clock outputs", 15 Q12 (out) "Clock outputs", 16 VDDC (power) "3.3 V or 2.5 V power supply for output clock buffers", 17 VSS (power) "Common ground", 18 Q11 (out) "Clock outputs", 19 Q10 (out) "Clock outputs", 20 Q9 (out) "Clock outputs", 21 VDD (power) "3.3 V or 2.5 V power supply", 22 Q8 (out) "Clock outputs", 23 Q7 (out) "Clock outputs", 24 Q6 (out) "Clock outputs", 25 VSS (power) "Common ground", 26 Q5 (out) "Clock outputs", 27 Q4 (out) "Clock outputs", 28 Q3 (out) "Clock outputs", 29 VDDC (power) "3.3 V or 2.5 V power supply for output clock buffers", 30 Q2 (out) "Clock outputs", 31 Q1 (out) "Clock outputs", 32 Q0 (out) "Clock outputs"